# Altium schematic symbol library SCH - CONNECTORS - 2 PIN.SCHLIB: 1 symbol
Pins are listed as number, name and electrical type; pins without a type are passive.

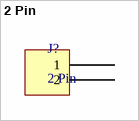
[diagram p0: symbol 2 Pin]

## 2 Pin
designator J?
footprint FCI 06-381-2PIN (FCI Pluggable Terminal Block)
pins: 1, 2